# Altium footprint library Crystal.PcbLib: 12 footprints
Each footprint in its own frame and in the unit in brackets; x right, y up, seen from the top. Pads: shape width x height; smd on the part's side, far side on the other; paste and mask are expansions set on the pad; w line width, h text height; cw(c..) or ccw(c..) is an arc to the next point about the centre after c.
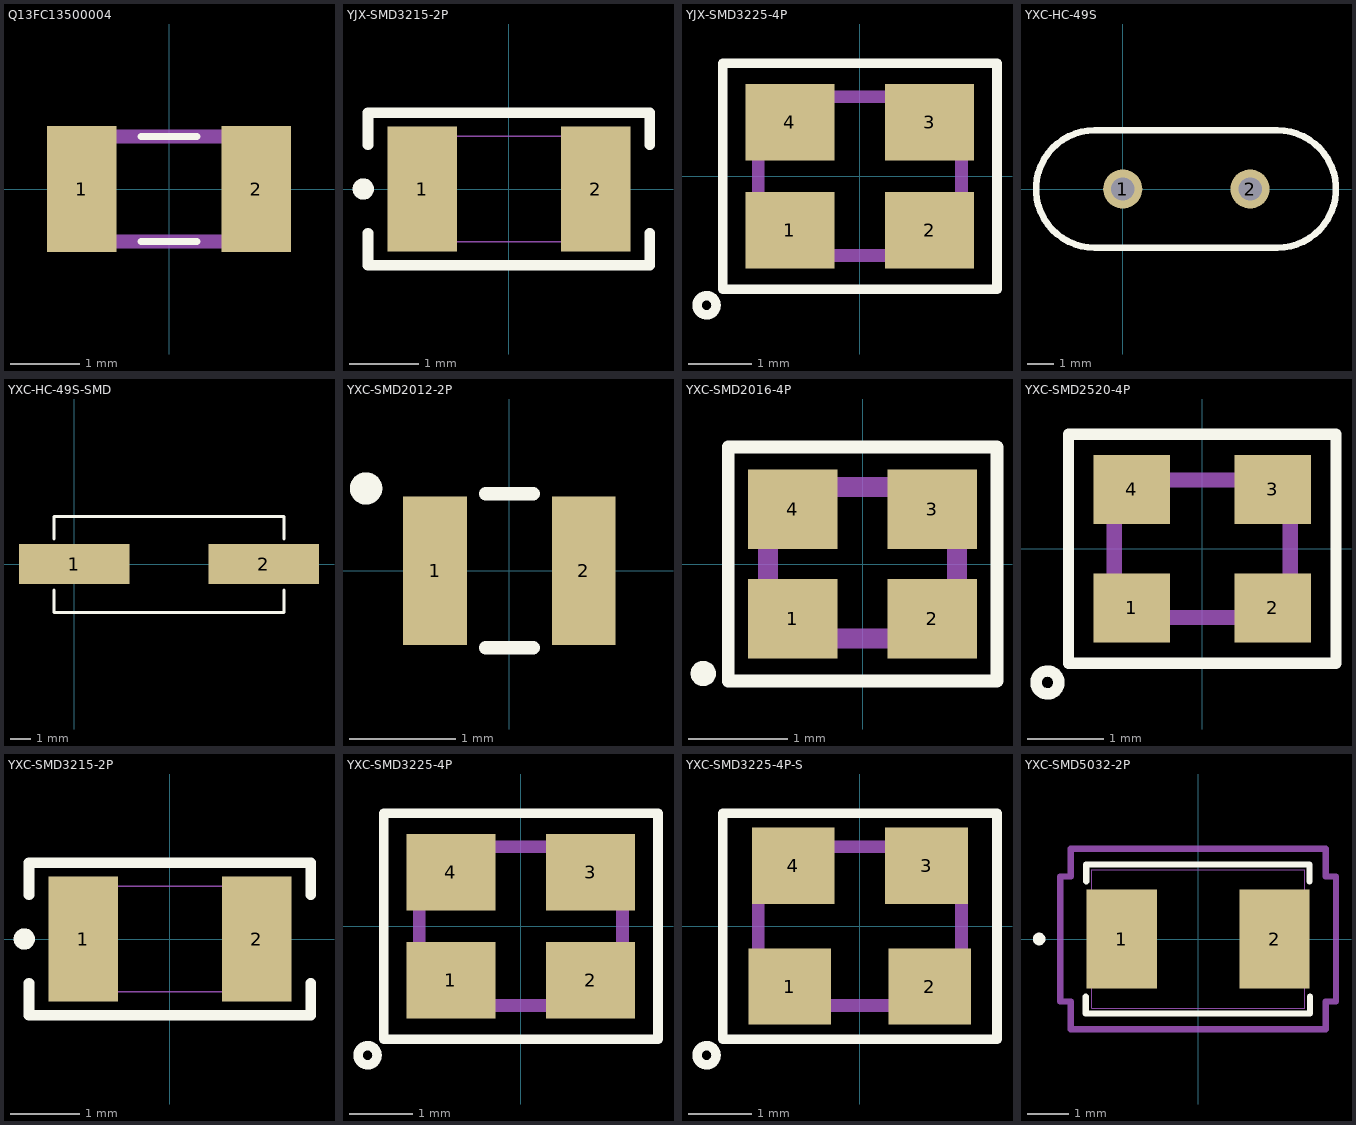
[diagram p0: the footprints below, top view; thin cyan lines are the x and y axes]

## Q13FC13500004 [mm] "EPSON(爱普生) Q13FC13500004 推荐焊盘"
pads (2):
  rect 1x1.8 smd: 1(-1.25,0) 2(1.25,0)
Top Overlay:
  lines w0.1: -0.4,-0.75 0.4,-0.75 ; -0.4,0.75 0.4,0.75
Mechanical 15:
  lines w0.2: -1.6,-0.75 -1.6,0.75 1.6,0.75 1.6,-0.75 -1.6,-0.75
3D body "FC-135_32.7680KA-A5.stp": height 0.92, standoff 0.02, extent -1.6,-0.75 1.6,0.75

## YJX-SMD3215-2P [mm] "YJX(雅晶鑫) 3215晶振 2Pin 推荐焊盘"
pads (2):
  rect 1x1.8 smd: 1(-1.25,0) 2(1.25,0)
Top Overlay:
  circle w0.152: c-2.1,0 r0.076
  lines w0.152: -2.032,-0.638 -2.032,-1.1 2.032,-1.1 2.032,-0.638 ; -2.032,0.638 -2.032,1.1 2.032,1.1 2.032,0.638
Mechanical 13:
  circle w0: c-1.397,0 r0.076
  lines w0.025: -1.651,-0.762 -1.651,0.762 1.651,0.762 1.651,-0.762 -1.651,-0.762
3D body "Crystal SMD 3215.step": height 0.8, standoff 0, extent -1.6,-0.75 1.6,0.75

## YJX-SMD3225-4P [mm] "YJX(雅晶鑫) 3225晶振 4Pin 推荐焊盘"
pads (4):
  rect 1.4x1.2 smd: 1(-1.1,-0.85) 2(1.1,-0.85) 3(1.1,0.85) 4(-1.1,0.85)
Top Overlay:
  circle w0.15: c-2.413,-2.032 r0.15
  lines w0.15: -2.159,-1.778 2.159,-1.778 2.159,1.778 -2.159,1.778 -2.159,-1.778
Mechanical 15:
  lines w0.2: -1.6,-1.25 -1.6,1.25 1.6,1.25 1.6,-1.25 -1.6,-1.25
3D body "Crystal SMD 3225.step": height 0.61, standoff 0, extent -1.6,-1.25 1.6,1.25

## YXC-HC-49S [mm]
pads (2):
  round 1.5 hole 0.9: 1(0,0) 2(4.88,0)
Top Overlay:
  lines w0.254: -1.075,-2.25 cw(c-1.075,0) -1.075,2.25 5.925,2.25 cw(c5.925,0) 5.925,-2.25 -1.075,-2.25
3D body "HC49S.STEP": height 3.6, standoff -3, extent -3.05,-2.246 7.93,2.246

## YXC-HC-49S-SMD [mm]
pads (2):
  rect 5.5x2 smd: 1(0,0) 2(9.4,0)
Top Overlay:
  lines w0.15: -1,-1.3 -1,-2.4 10.4,-2.4 10.4,-1.3 ; -1,1.25 -1,2.35 10.4,2.35 10.4,1.25
3D body "HC-49S-SMD.step": height 4.35, standoff 0, extent -1.45,-2.35 10.85,2.35

## YXC-SMD2012-2P [mm] "YXC(扬兴晶振) SMD2012 推荐焊盘"
pads (2):
  rect 0.6x1.4 smd: 1(-0.7,0) 2(0.7,0)
Top Overlay:
  circle w0.152: c-1.35,0.775 r0.076
  lines w0.127: -0.225,-0.725 0.225,-0.725 ; -0.225,0.725 0.225,0.725
3D body "CrystalSMD 2012.stp": height 0.6, standoff -0.01, extent -1,-0.6 1,0.6

## YXC-SMD2016-4P [mm] "YXC(扬兴晶振) 2016晶振 4Pin 推荐焊盘"
pads (4):
  rect 0.9x0.8 smd mask+0.076: 1(-0.7,-0.55) 2(0.7,-0.55) 3(0.7,0.55) 4(-0.7,0.55)
Top Overlay:
  circle w0.127: c-1.6,-1.1 r0.064
  lines w0.127: -1.35,-1.175 1.35,-1.175 1.35,1.175 -1.35,1.175 -1.35,-1.175
Mechanical 15:
  lines w0.2: -0.95,-0.75 0.95,-0.75 0.95,0.775 -0.95,0.775 -0.95,-0.75
3D body "Crystal SMD 2016.step": height 0.45, standoff 0, extent -1.025,-0.825 1.025,0.825

## YXC-SMD2520-4P [mm] "YXC(扬兴晶振) 2520晶振 4Pin 推荐焊盘"
pads (4):
  rect 1x0.9 smd: 1(-0.925,-0.775) 2(0.925,-0.775) 3(0.925,0.775) 4(-0.925,0.775)
Top Overlay:
  circle w0.15: c-2.025,-1.75 r0.15
  lines w0.15: -1.75,-1.5 1.75,-1.5 1.75,1.5 -1.75,1.5 -1.75,-1.5
Mechanical 15:
  lines w0.2: -1.15,-0.9 -1.15,0.9 1.15,0.9 1.15,-0.9 -1.15,-0.9
3D body "Crystal SMD 2520.step": height 0.55, standoff 0, extent -1.25,-1 1.25,1

## YXC-SMD3215-2P [mm] "YXC(扬兴晶振) 3215晶振 2Pin 推荐焊盘"
pads (2):
  rect 1x1.8 smd: 1(-1.25,0) 2(1.25,0)
Top Overlay:
  circle w0.152: c-2.1,0 r0.076
  lines w0.152: -2.032,-0.638 -2.032,-1.1 2.032,-1.1 2.032,-0.638 ; -2.032,0.638 -2.032,1.1 2.032,1.1 2.032,0.638
Mechanical 13:
  circle w0: c-1.397,0 r0.076
  lines w0.025: -1.651,-0.762 -1.651,0.762 1.651,0.762 1.651,-0.762 -1.651,-0.762
3D body "Crystal SMD 3215.step": height 0.8, standoff 0, extent -1.6,-0.75 1.6,0.75

## YXC-SMD3225-4P [mm] "YXC(扬兴晶振) 3225晶振 4Pin 推荐焊盘"
pads (4):
  rect 1.4x1.2 smd: 1(-1.1,-0.85) 2(1.1,-0.85) 3(1.1,0.85) 4(-1.1,0.85)
Top Overlay:
  circle w0.15: c-2.413,-2.032 r0.15
  lines w0.15: -2.159,-1.778 2.159,-1.778 2.159,1.778 -2.159,1.778 -2.159,-1.778
Mechanical 15:
  lines w0.2: -1.6,-1.25 -1.6,1.25 1.6,1.25 1.6,-1.25 -1.6,-1.25
3D body "Crystal SMD 3225.step": height 0.61, standoff 0, extent -1.6,-1.25 1.6,1.25

## YXC-SMD3225-4P-S [mm] "YXC(扬兴晶振) 3225有源晶振 4Pin 推荐焊盘"
pads (4):
  rect 1.3x1.2 smd: 1(-1.1,-0.95) 2(1.1,-0.95) 3(1.05,0.95) 4(-1.05,0.95)
Top Overlay:
  circle w0.15: c-2.413,-2.032 r0.15
  lines w0.15: -2.159,-1.778 -2.159,1.778 2.159,1.778 2.159,-1.778 -2.159,-1.778
Mechanical 15:
  lines w0.2: -1.6,-1.25 -1.6,1.25 1.6,1.25 1.6,-1.25 -1.6,-1.25
3D body "Crystal SMD 3225.step": height 0.61, standoff 0, extent -1.6,-1.25 1.6,1.25

## YXC-SMD5032-2P [mm] "YXC(扬兴晶振) SMD5032 推荐焊盘"
pads (2):
  rect 1.7x2.4 smd: 1(-1.85,0) 2(1.85,0)
Top Overlay:
  circle w0.152: c-3.848,0 r0.076
  lines w0.152: -2.72,-1.803 -2.72,-1.4 ; -2.705,-1.803 2.705,-1.803 2.705,-1.4 ; -2.705,1.4 -2.705,1.803 2.695,1.803 2.695,1.4
Mechanical 13:
  circle w0: c-2.07,0 r0.076
  lines w0.025: -2.578,-1.676 2.578,-1.676 2.578,1.676 -2.578,1.676 -2.578,-1.676
Mechanical 15:
  lines w0.152: -3.336,-1.511 -3.336,1.511 -3.086,1.511 -3.086,2.184 3.086,2.184 3.086,1.511 3.336,1.511 3.336,-1.511 3.086,-1.511 3.086,-2.184 -3.086,-2.184 -3.086,-1.511 -3.336,-1.511
3D body "CRYSTAL SMD 5032.STEP": height 1.3, standoff 0, extent -2.5,-1.6 2.5,1.6